# Altium footprint library KLS51096.PcbLib: 1 footprints
Each footprint in its own frame and in the unit in brackets; x right, y up, seen from the top. Pads: shape width x height; smd on the part's side, far side on the other; paste and mask are expansions set on the pad; w line width, h text height; cw(c..) or ccw(c..) is an arc to the next point about the centre after c.
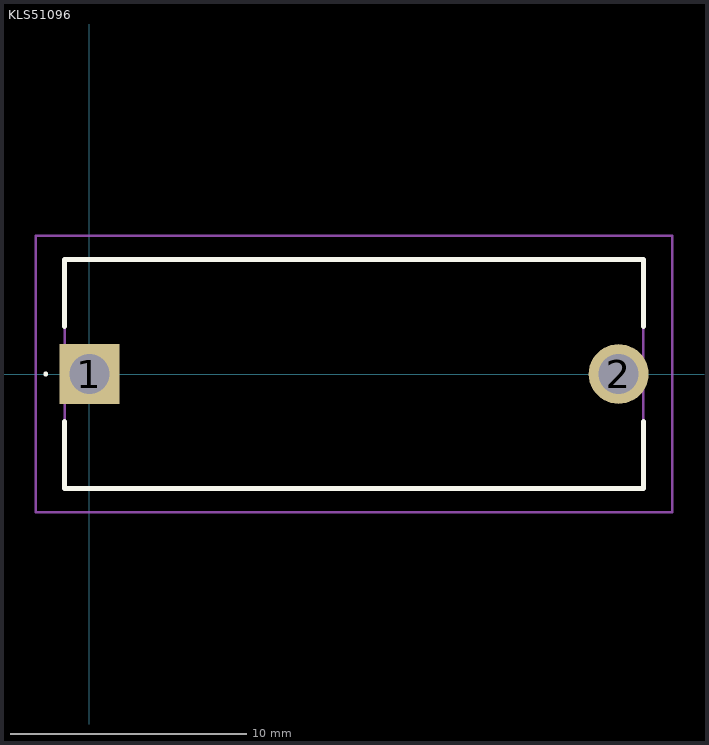
[diagram p0: the footprint, top view; thin cyan lines are the x and y axes]

## KLS51096 [mm]
pads (2):
  rect 2.535x2.535 hole 1.69: 1(0,0)
  round 2.535 hole 1.69: 2(22.4,0)
Top Overlay:
  lines w0.1: -1.9,0 cw(c-1.85,0) -1.8,0 ; -1.9,0 -1.9,0 ; -1.9,0 ccw(c-1.85,0) -1.8,0 ; -1.8,0 -1.8,0
  lines w0.2: -1.05,-2 -1.05,-4.85 23.45,-4.85 23.45,-2 ; -1.05,2 -1.05,4.85 23.45,4.85 23.45,2
Mechanical 15:
  lines w0.1: -1.05,-4.85 23.45,-4.85 23.45,4.85 -1.05,4.85 -1.05,-4.85
Mechanical 20:
  lines w0.1: -2.267,-5.85 24.667,-5.85 24.667,5.85 -2.267,5.85 -2.267,-5.85